# EAGLE library part SIL9022ACNU (library vikc-ic)
HDMI Transmitter by Silicon Image
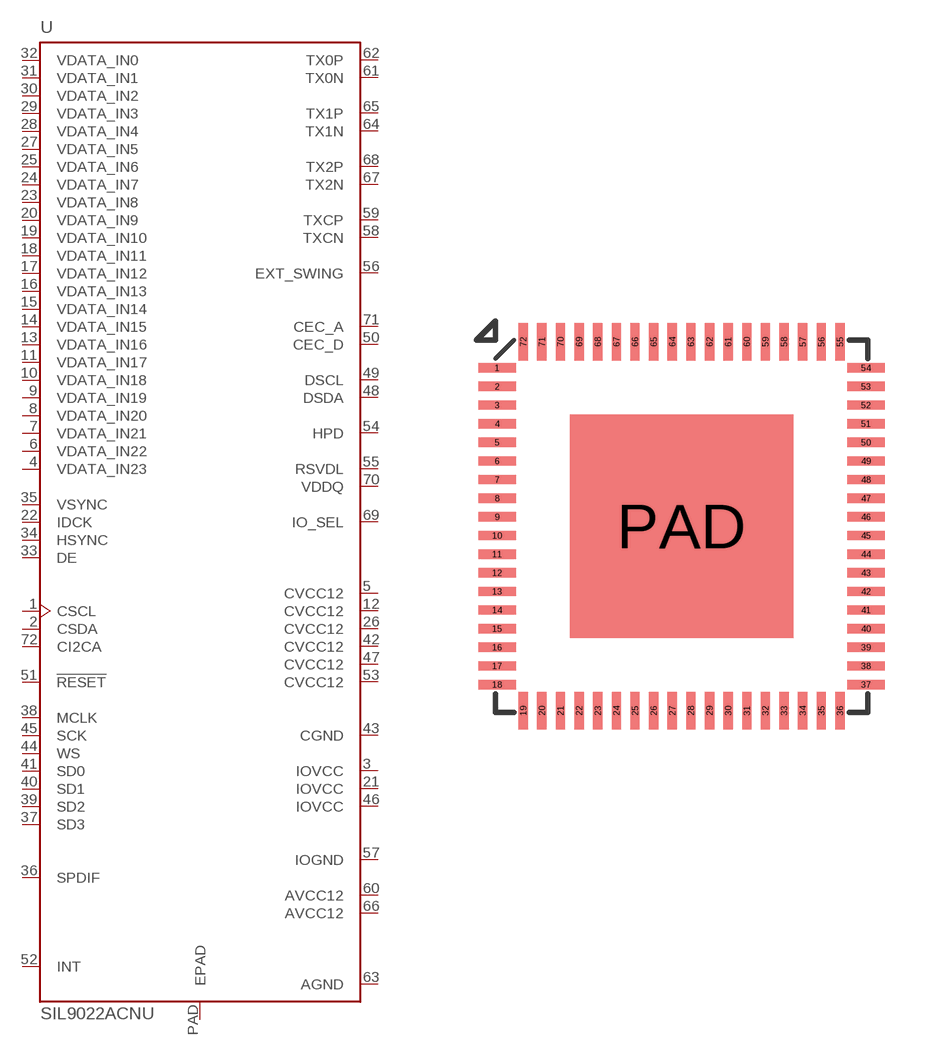
[diagram p7: symbol with the pads of QFN-72; footprint QFN-72]

Designator prefix U

## SIL9022ACNU  [QFN-72]
1  CSCL  pas
2  CSDA
3  IOVCC  pwr
4  VDATA_IN23  in
5  CVCC12  pwr
6  VDATA_IN22  in
7  VDATA_IN21  in
8  VDATA_IN20  in
9  VDATA_IN19  in
10  VDATA_IN18  in
11  VDATA_IN17  in
12  CVCC12  pwr
13  VDATA_IN16  in
14  VDATA_IN15  in
15  VDATA_IN14  in
16  VDATA_IN13  in
17  VDATA_IN12  in
18  VDATA_IN11  in
19  VDATA_IN10  in
20  VDATA_IN9  in
21  IOVCC  pwr
22  IDCK  in
23  VDATA_IN8  in
24  VDATA_IN7  in
25  VDATA_IN6  in
26  CVCC12  pwr
27  VDATA_IN5  in
28  VDATA_IN4  in
29  VDATA_IN3  in
30  VDATA_IN2  in
31  VDATA_IN1  in
32  VDATA_IN0  in
33  DE  in
34  HSYNC  in
35  VSYNC  in
36  SPDIF  in
37  SD3  in
38  MCLK  in
39  SD2  in
40  SD1  in
41  SD0  in
42  CVCC12  pwr
43  CGND
44  WS  in
45  SCK  in
46  IOVCC  pwr
47  CVCC12  pwr
48  DSDA
49  DSCL
50  CEC_D
51  !RESET  in
52  INT  out
53  CVCC12  pwr
54  HPD
55  RSVDL
56  EXT_SWING
57  IOGND  pwr
58  TXCN
59  TXCP
60  AVCC12  pwr
61  TX0N
62  TX0P
63  AGND  pwr
64  TX1N
65  TX1P
66  AVCC12  pwr
67  TX2N
68  TX2P
69  IO_SEL  in
70  VDDQ
71  CEC_A
72  CI2CA  in
PAD  EPAD  pwr

## Footprint QFN-72 (pad centres in mm)
smd 1 x 0.25: 1 -4.95,4.25; 2 -4.95,3.75; 3 -4.95,3.25; 4 -4.95,2.75; 5 -4.95,2.25; 6 -4.95,1.75; 7 -4.95,1.25; 8 -4.95,0.75; 9 -4.95,0.25; 10 -4.95,-0.25; 11 -4.95,-0.75; 12 -4.95,-1.25; 13 -4.95,-1.75; 14 -4.95,-2.25; 15 -4.95,-2.75; 16 -4.95,-3.25; 17 -4.95,-3.75; 18 -4.95,-4.25; 37 4.95,-4.25; 38 4.95,-3.75; 39 4.95,-3.25; 40 4.95,-2.75; 41 4.95,-2.25; 42 4.95,-1.75; 43 4.95,-1.25; 44 4.95,-0.75; 45 4.95,-0.25; 46 4.95,0.25; 47 4.95,0.75; 48 4.95,1.25; 49 4.95,1.75; 50 4.95,2.25; 51 4.95,2.75; 52 4.95,3.25; 53 4.95,3.75; 54 4.95,4.25
smd 0.25 x 1: 19 -4.25,-4.95; 20 -3.75,-4.95; 21 -3.25,-4.95; 22 -2.75,-4.95; 23 -2.25,-4.95; 24 -1.75,-4.95; 25 -1.25,-4.95; 26 -0.75,-4.95; 27 -0.25,-4.95; 28 0.25,-4.95; 29 0.75,-4.95; 30 1.25,-4.95; 31 1.75,-4.95; 32 2.25,-4.95; 33 2.75,-4.95; 34 3.25,-4.95; 35 3.75,-4.95; 36 4.25,-4.95; 55 4.25,4.95; 56 3.75,4.95; 57 3.25,4.95; 58 2.75,4.95; 59 2.25,4.95; 60 1.75,4.95; 61 1.25,4.95; 62 0.75,4.95; 63 0.25,4.95; 64 -0.25,4.95; 65 -0.75,4.95; 66 -1.25,4.95; 67 -1.75,4.95; 68 -2.25,4.95; 69 -2.75,4.95; 70 -3.25,4.95; 71 -3.75,4.95; 72 -4.25,4.95
smd 6 x 6: PAD 0,0